# Altium footprint library DC-L-Z-2.54简牛立式直插插座4P-50P.PcbLib: 24 footprints (part 1 of 2)
Each footprint in its own frame and in the unit in brackets; x right, y up, seen from the top. Pads: shape width x height; smd on the part's side, far side on the other; paste and mask are expansions set on the pad; w line width, h text height; cw(c..) or ccw(c..) is an arc to the next point about the centre after c.
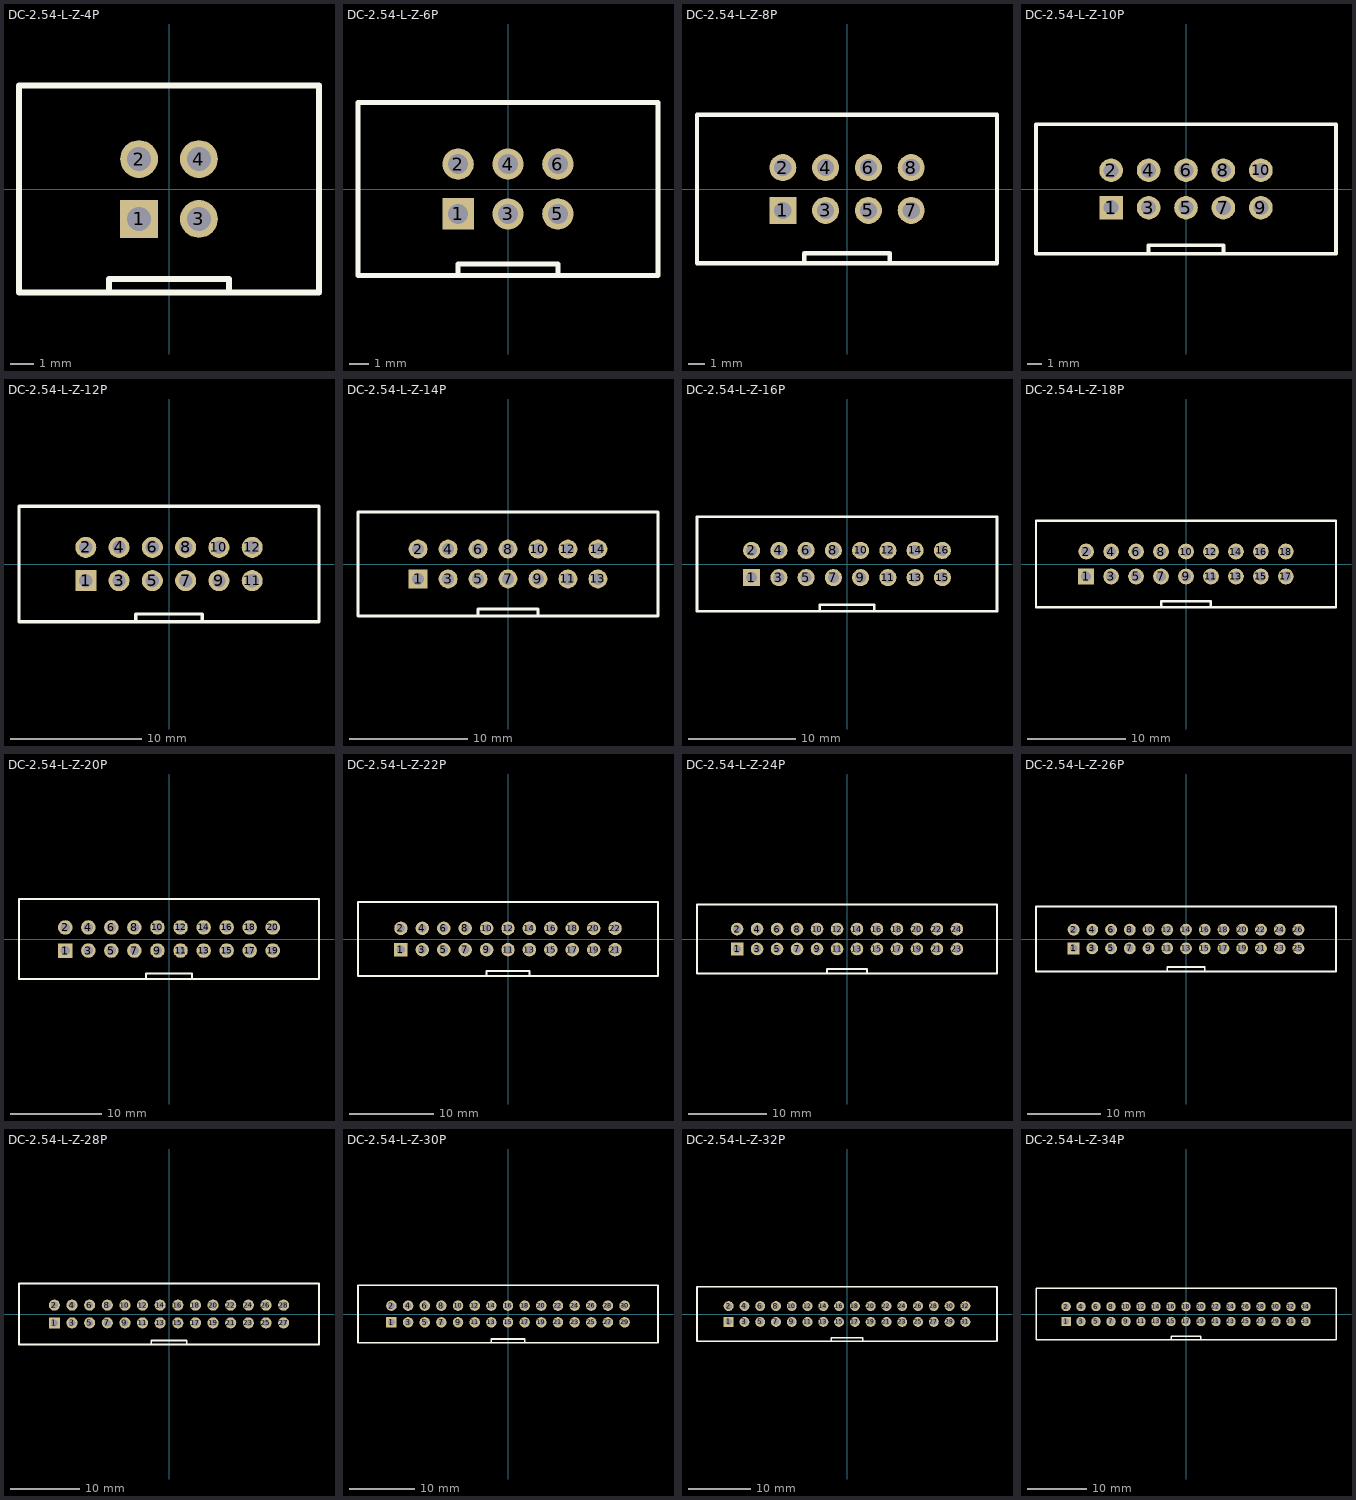
[diagram p0: the footprints below, top view; thin cyan lines are the x and y axes]

## DC-2.54-L-Z-4P [mm] "立式直插简牛插座，间距2.54（蒜米工坊）"
pads (4):
  rect 1.6x1.6 hole 1.02: 1(-1.27,-1.27)
  round 1.6 hole 1.02: 2(-1.27,1.27) 3(1.27,-1.27) 4(1.27,1.27)
Top Overlay:
  lines w0.254: -2.54,-4.4 -2.54,-3.81 2.54,-3.81 2.54,-4.4 ; -6.365,-4.4 -6.365,4.4 6.365,4.4 6.365,-4.4 -6.365,-4.4
3D body "2.54牛角插座2×2P.STEP": height 8.8, standoff -3.5, extent -6.365,-4.4 6.365,4.7

## DC-2.54-L-Z-6P [mm] "立式直插简牛插座，间距2.54（蒜米工坊）"
pads (6):
  rect 1.6x1.6 hole 1.02: 1(-2.54,-1.27)
  round 1.6 hole 1.02: 2(-2.54,1.27) 3(0,-1.27) 4(0,1.27) 5(2.54,-1.27) 6(2.54,1.27)
Top Overlay:
  lines w0.254: -2.54,-4.4 -2.54,-3.81 2.54,-3.81 2.54,-4.4 ; -7.635,-4.4 -7.635,4.4 7.635,4.4 7.635,-4.4 -7.635,-4.4
3D body "2.54牛角插座2×3P.STEP": height 8.8, standoff -3.5, extent -7.635,-4.4 7.635,4.7

## DC-2.54-L-Z-8P [mm] "立式直插简牛插座，间距2.54（蒜米工坊）"
pads (8):
  rect 1.6x1.6 hole 1.02: 1(-3.81,-1.27)
  round 1.6 hole 1.02: 2(-3.81,1.27) 3(-1.27,-1.27) 4(-1.27,1.27) 5(1.27,-1.27) 6(1.27,1.27) 7(3.81,-1.27) 8(3.81,1.27)
Top Overlay:
  lines w0.254: -2.54,-4.4 -2.54,-3.81 2.54,-3.81 2.54,-4.4 ; -8.905,-4.4 -8.905,4.4 8.905,4.4 8.905,-4.4 -8.905,-4.4
3D body "2.54牛角插座2×4P.STEP": height 8.8, standoff -3.5, extent -8.905,-4.4 8.905,4.7

## DC-2.54-L-Z-10P [mm] "立式直插简牛插座，间距2.54（蒜米工坊）"
pads (10):
  rect 1.6x1.6 hole 1.02: 1(-5.08,-1.27)
  round 1.6 hole 1.02: 2(-5.08,1.27) 3(-2.54,-1.27) 4(-2.54,1.27) 5(0,-1.27) 6(0,1.27) 7(2.54,-1.27) 8(2.54,1.27) 9(5.08,-1.27) 10(5.08,1.27)
Top Overlay:
  lines w0.254: -2.54,-4.4 -2.54,-3.81 2.54,-3.81 2.54,-4.4 ; -10.175,-4.4 10.175,-4.4 10.175,4.4 -10.175,4.4 -10.175,-4.4
3D body "2.54牛角插座2×5P.STEP": height 8.8, standoff -3.5, extent -10.175,-4.4 10.175,4.7

## DC-2.54-L-Z-12P [mm] "立式直插简牛插座，间距2.54（蒜米工坊）"
pads (12):
  rect 1.6x1.6 hole 1.02: 1(-6.35,-1.27)
  round 1.6 hole 1.02: 2(-6.35,1.27) 3(-3.81,-1.27) 4(-3.81,1.27) 5(-1.27,-1.27) 6(-1.27,1.27) 7(1.27,-1.27) 8(1.27,1.27) 9(3.81,-1.27) 10(3.81,1.27) 11(6.35,-1.27) 12(6.35,1.27)
Top Overlay:
  lines w0.254: -2.54,-4.4 -2.54,-3.81 2.54,-3.81 2.54,-4.4 ; -11.445,-4.4 -11.445,4.4 11.445,4.4 11.445,-4.4 -11.445,-4.4
3D body "2.54牛角插座2×6P.STEP": height 8.8, standoff -3.5, extent -11.445,-4.4 11.445,4.7

## DC-2.54-L-Z-14P [mm] "立式直插简牛插座，间距2.54（蒜米工坊）"
pads (14):
  rect 1.6x1.6 hole 1.02: 1(-7.62,-1.27)
  round 1.6 hole 1.02: 2(-7.62,1.27) 3(-5.08,-1.27) 4(-5.08,1.27) 5(-2.54,-1.27) 6(-2.54,1.27) 7(0,-1.27) 8(0,1.27) 9(2.54,-1.27) 10(2.54,1.27) 11(5.08,-1.27) 12(5.08,1.27) 13(7.62,-1.27) 14(7.62,1.27)
Top Overlay:
  lines w0.254: -2.54,-4.4 -2.54,-3.81 2.54,-3.81 2.54,-4.4 ; -12.715,-4.4 -12.715,4.4 12.715,4.4 12.715,-4.4 -12.715,-4.4
3D body "2.54牛角插座2×7P.STEP": height 8.8, standoff -3.5, extent -12.715,-4.4 12.715,4.7

## DC-2.54-L-Z-16P [mm] "立式直插简牛插座，间距2.54（蒜米工坊）"
pads (16):
  rect 1.6x1.6 hole 1.02: 1(-8.89,-1.27)
  round 1.6 hole 1.02: 2(-8.89,1.27) 3(-6.35,-1.27) 4(-6.35,1.27) 5(-3.81,-1.27) 6(-3.81,1.27) 7(-1.27,-1.27) 8(-1.27,1.27) 9(1.27,-1.27) 10(1.27,1.27) 11(3.81,-1.27) 12(3.81,1.27) 13(6.35,-1.27) 14(6.35,1.27) 15(8.89,-1.27) 16(8.89,1.27)
Top Overlay:
  lines w0.254: -2.54,-4.4 -2.54,-3.81 2.54,-3.81 2.54,-4.4 ; -13.985,-4.4 -13.985,4.4 13.985,4.4 13.985,-4.4 -13.985,-4.4
3D body "2.54牛角插座2×8P.STEP": height 8.8, standoff -3.5, extent -13.985,-4.4 13.985,4.7

## DC-2.54-L-Z-18P [mm] "立式直插简牛插座，间距2.54（蒜米工坊）"
pads (18):
  rect 1.6x1.6 hole 1.02: 1(-10.16,-1.27)
  round 1.6 hole 1.02: 2(-10.16,1.27) 3(-7.62,-1.27) 4(-7.62,1.27) 5(-5.08,-1.27) 6(-5.08,1.27) 7(-2.54,-1.27) 8(-2.54,1.27) 9(0,-1.27) 10(0,1.27) 11(2.54,-1.27) 12(2.54,1.27) 13(5.08,-1.27) 14(5.08,1.27) 15(7.62,-1.27) 16(7.62,1.27) 17(10.16,-1.27) 18(10.16,1.27)
Top Overlay:
  lines w0.254: -2.54,-4.4 -2.54,-3.81 2.54,-3.81 2.54,-4.4 ; -15.255,-4.4 -15.255,4.4 15.255,4.4 15.255,-4.4 -15.255,-4.4
3D body "2.54牛角插座2×9P.STEP": height 8.8, standoff -3.5, extent -15.255,-4.4 15.255,4.7

## DC-2.54-L-Z-20P [mm] "立式直插简牛插座，间距2.54（蒜米工坊）"
pads (20):
  rect 1.6x1.6 hole 1.02: 1(-11.43,-1.27)
  round 1.6 hole 1.02: 2(-11.43,1.27) 3(-8.89,-1.27) 4(-8.89,1.27) 5(-6.35,-1.27) 6(-6.35,1.27) 7(-3.81,-1.27) 8(-3.81,1.27) 9(-1.27,-1.27) 10(-1.27,1.27) 11(1.27,-1.27) 12(1.27,1.27) 13(3.81,-1.27) 14(3.81,1.27) 15(6.35,-1.27) 16(6.35,1.27) 17(8.89,-1.27) 18(8.89,1.27) 19(11.43,-1.27) 20(11.43,1.27)
Top Overlay:
  lines w0.254: -2.54,-4.4 -2.54,-3.81 2.54,-3.81 2.54,-4.4 ; -16.525,-4.4 16.525,-4.4 16.525,4.4 -16.525,4.4 -16.525,-4.4
3D body "2.54牛角插座2×10P.STEP": height 8.8, standoff -3.5, extent -16.525,-4.4 16.525,4.7

## DC-2.54-L-Z-22P [mm] "立式直插简牛插座，间距2.54（蒜米工坊）"
pads (22):
  rect 1.6x1.6 hole 1.02: 1(-12.7,-1.27)
  round 1.6 hole 1.02: 2(-12.7,1.27) 3(-10.16,-1.27) 4(-10.16,1.27) 5(-7.62,-1.27) 6(-7.62,1.27) 7(-5.08,-1.27) 8(-5.08,1.27) 9(-2.54,-1.27) 10(-2.54,1.27) 11(0,-1.27) 12(0,1.27) 13(2.54,-1.27) 14(2.54,1.27) 15(5.08,-1.27) 16(5.08,1.27) 17(7.62,-1.27) 18(7.62,1.27) 19(10.16,-1.27) 20(10.16,1.27) 21(12.7,-1.27) 22(12.7,1.27)
Top Overlay:
  lines w0.254: -2.54,-4.4 -2.54,-3.81 2.54,-3.81 2.54,-4.4 ; -17.795,-4.4 17.795,-4.4 17.795,4.4 -17.795,4.4 -17.795,-4.4
3D body "2.54牛角插座2×11P.STEP": height 8.8, standoff -3.5, extent -17.795,-4.4 17.795,4.7

## DC-2.54-L-Z-24P [mm] "立式直插简牛插座，间距2.54（蒜米工坊）"
pads (24):
  rect 1.6x1.6 hole 1.02: 1(-13.97,-1.27)
  round 1.6 hole 1.02: 2(-13.97,1.27) 3(-11.43,-1.27) 4(-11.43,1.27) 5(-8.89,-1.27) 6(-8.89,1.27) 7(-6.35,-1.27) 8(-6.35,1.27) 9(-3.81,-1.27) 10(-3.81,1.27) 11(-1.27,-1.27) 12(-1.27,1.27) 13(1.27,-1.27) 14(1.27,1.27) 15(3.81,-1.27) 16(3.81,1.27) 17(6.35,-1.27) 18(6.35,1.27) 19(8.89,-1.27) 20(8.89,1.27) 21(11.43,-1.27) 22(11.43,1.27) 23(13.97,-1.27) 24(13.97,1.27)
Top Overlay:
  lines w0.254: -2.54,-4.4 -2.54,-3.81 2.54,-3.81 2.54,-4.4 ; -19.065,-4.4 19.065,-4.4 19.065,4.4 -19.065,4.4 -19.065,-4.4
3D body "2.54牛角插座2×12P.STEP": height 8.8, standoff -3.5, extent -19.065,-4.4 19.065,4.7

## DC-2.54-L-Z-26P [mm] "立式直插简牛插座，间距2.54（蒜米工坊）"
pads (26):
  rect 1.6x1.6 hole 1.02: 1(-15.24,-1.27)
  round 1.6 hole 1.02: 2(-15.24,1.27) 3(-12.7,-1.27) 4(-12.7,1.27) 5(-10.16,-1.27) 6(-10.16,1.27) 7(-7.62,-1.27) 8(-7.62,1.27) 9(-5.08,-1.27) 10(-5.08,1.27) 11(-2.54,-1.27) 12(-2.54,1.27) 13(0,-1.27) 14(0,1.27) 15(2.54,-1.27) 16(2.54,1.27) 17(5.08,-1.27) 18(5.08,1.27) 19(7.62,-1.27) 20(7.62,1.27) 21(10.16,-1.27) 22(10.16,1.27) 23(12.7,-1.27) 24(12.7,1.27) 25(15.24,-1.27) 26(15.24,1.27)
Top Overlay:
  lines w0.254: -2.54,-4.4 -2.54,-3.81 2.54,-3.81 2.54,-4.4 ; -20.335,-4.4 20.335,-4.4 20.335,4.4 -20.335,4.4 -20.335,-4.4
3D body "2.54牛角插座2×13P.STEP": height 8.8, standoff -3.5, extent -20.335,-4.4 20.335,4.7

## DC-2.54-L-Z-28P [mm] "立式直插简牛插座，间距2.54（蒜米工坊）"
pads (28):
  rect 1.6x1.6 hole 1.02: 1(-16.51,-1.27)
  round 1.6 hole 1.02: 2(-16.51,1.27) 3(-13.97,-1.27) 4(-13.97,1.27) 5(-11.43,-1.27) 6(-11.43,1.27) 7(-8.89,-1.27) 8(-8.89,1.27) 9(-6.35,-1.27) 10(-6.35,1.27) 11(-3.81,-1.27) 12(-3.81,1.27) 13(-1.27,-1.27) 14(-1.27,1.27) 15(1.27,-1.27) 16(1.27,1.27) 17(3.81,-1.27) 18(3.81,1.27) 19(6.35,-1.27) 20(6.35,1.27) 21(8.89,-1.27) 22(8.89,1.27) 23(11.43,-1.27) 24(11.43,1.27) 25(13.97,-1.27) 26(13.97,1.27) 27(16.51,-1.27) 28(16.51,1.27)
Top Overlay:
  lines w0.254: -2.54,-4.4 -2.54,-3.81 2.54,-3.81 2.54,-4.4 ; -21.605,-4.4 -21.605,4.4 21.605,4.4 21.605,-4.4 -21.605,-4.4
3D body "2.54牛角插座2×14P.STEP": height 8.8, standoff -3.5, extent -21.605,-4.4 21.605,4.7

## DC-2.54-L-Z-30P [mm] "立式直插简牛插座，间距2.54（蒜米工坊）"
pads (30):
  rect 1.6x1.6 hole 1.02: 1(-17.78,-1.27)
  round 1.6 hole 1.02: 2(-17.78,1.27) 3(-15.24,-1.27) 4(-15.24,1.27) 5(-12.7,-1.27) 6(-12.7,1.27) 7(-10.16,-1.27) 8(-10.16,1.27) 9(-7.62,-1.27) 10(-7.62,1.27) 11(-5.08,-1.27) 12(-5.08,1.27) 13(-2.54,-1.27) 14(-2.54,1.27) 15(0,-1.27) 16(0,1.27) 17(2.54,-1.27) 18(2.54,1.27) 19(5.08,-1.27) 20(5.08,1.27) 21(7.62,-1.27) 22(7.62,1.27) 23(10.16,-1.27) 24(10.16,1.27) 25(12.7,-1.27) 26(12.7,1.27) 27(15.24,-1.27) 28(15.24,1.27) 29(17.78,-1.27) 30(17.78,1.27)
Top Overlay:
  lines w0.254: -2.54,-4.4 -2.54,-3.81 2.54,-3.81 2.54,-4.4 ; -22.875,-4.4 -22.875,4.4 22.875,4.4 22.875,-4.4 -22.875,-4.4
3D body "2.54牛角插座2×15P.STEP": height 8.8, standoff -3.5, extent -22.875,-4.4 22.875,4.7

## DC-2.54-L-Z-32P [mm] "立式直插简牛插座，间距2.54（蒜米工坊）"
pads (32):
  rect 1.6x1.6 hole 1.02: 1(-19.05,-1.27)
  round 1.6 hole 1.02: 2(-19.05,1.27) 3(-16.51,-1.27) 4(-16.51,1.27) 5(-13.97,-1.27) 6(-13.97,1.27) 7(-11.43,-1.27) 8(-11.43,1.27) 9(-8.89,-1.27) 10(-8.89,1.27) 11(-6.35,-1.27) 12(-6.35,1.27) 13(-3.81,-1.27) 14(-3.81,1.27) 15(-1.27,-1.27) 16(-1.27,1.27) 17(1.27,-1.27) 18(1.27,1.27) 19(3.81,-1.27) 20(3.81,1.27) 21(6.35,-1.27) 22(6.35,1.27) 23(8.89,-1.27) 24(8.89,1.27) 25(11.43,-1.27) 26(11.43,1.27) 27(13.97,-1.27) 28(13.97,1.27) 29(16.51,-1.27) 30(16.51,1.27) 31(19.05,-1.27) 32(19.05,1.27)
Top Overlay:
  lines w0.254: -2.54,-4.4 -2.54,-3.81 2.54,-3.81 2.54,-4.4 ; 23.95,-4.4 -24.145,-4.4 -24.145,4.4 24.145,4.4 24.145,-4.4
3D body "2.54牛角插座2×16P.STEP": height 8.8, standoff -3.5, extent -24.145,-4.4 24.145,4.7

## DC-2.54-L-Z-34P [mm] "立式直插简牛插座，间距2.54（蒜米工坊）"
pads (34):
  rect 1.6x1.6 hole 1.02: 1(-20.32,-1.27)
  round 1.6 hole 1.02: 2(-20.32,1.27) 3(-17.78,-1.27) 4(-17.78,1.27) 5(-15.24,-1.27) 6(-15.24,1.27) 7(-12.7,-1.27) 8(-12.7,1.27) 9(-10.16,-1.27) 10(-10.16,1.27) 11(-7.62,-1.27) 12(-7.62,1.27) 13(-5.08,-1.27) 14(-5.08,1.27) 15(-2.54,-1.27) 16(-2.54,1.27) 17(0,-1.27) 18(0,1.27) 19(2.54,-1.27) 20(2.54,1.27) 21(5.08,-1.27) 22(5.08,1.27) 23(7.62,-1.27) 24(7.62,1.27) 25(10.16,-1.27) 26(10.16,1.27) 27(12.7,-1.27) 28(12.7,1.27) 29(15.24,-1.27) 30(15.24,1.27) 31(17.78,-1.27) 32(17.78,1.27) 33(20.32,-1.27) 34(20.32,1.27)
Top Overlay:
  lines w0.254: -2.54,-4.4 -2.54,-3.81 2.54,-3.81 2.54,-4.4 ; -25.415,-4.4 -25.415,4.4 25.415,4.4 25.415,-4.4 -25.415,-4.4
3D body "2.54牛角插座2×17P.STEP": height 8.8, standoff -3.5, extent -25.415,-4.4 25.415,4.7